# Altium footprint library PCB - LEADED - DPAK - ONSEMI DPAK FDD390N15ALZ.PcbLib: 1 footprints
Each footprint in its own frame and in the unit in brackets; x right, y up, seen from the top. Pads: shape width x height; smd on the part's side, far side on the other; paste and mask are expansions set on the pad; w line width, h text height; cw(c..) or ccw(c..) is an arc to the next point about the centre after c.
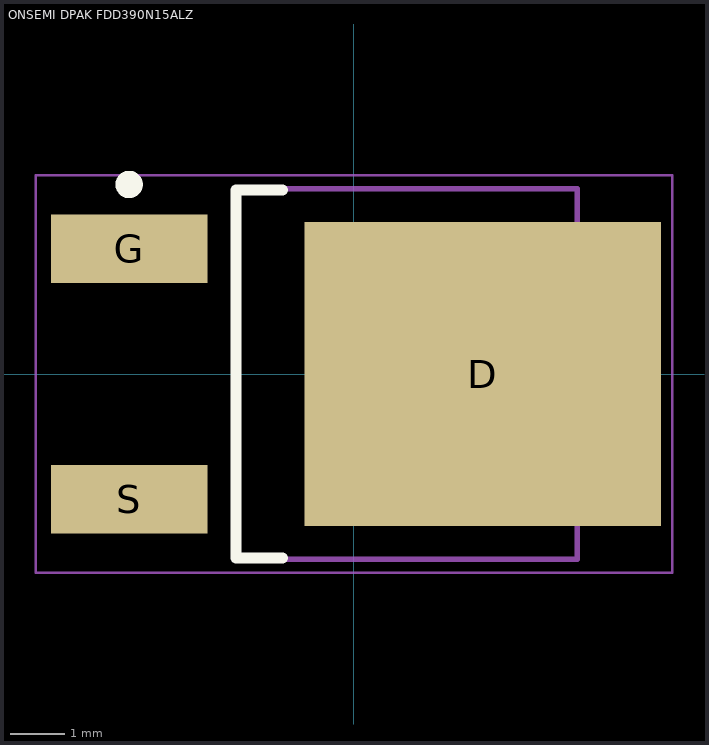
[diagram p0: the footprint, top view; thin cyan lines are the x and y axes]

## ONSEMI DPAK FDD390N15ALZ [mm]
height 2.39
pads (3):
  rect 6.5x5.55 smd: D(2.35,0)
  rect 2.85x1.25 smd: G(-4.1,2.28) S(-4.1,-2.28)
Top Overlay:
  circle w0.25: c-4.1,3.455 r0.125
  lines w0.2: -1.3,-3.35 -2.15,-3.35 -2.15,3.35 -1.3,3.35
Mechanical 13:
  lines w0.1: -2.15,-3.375 -2.15,3.375 4.07,3.375 4.07,-3.375 -2.15,-3.375
Mechanical 15:
  lines w0.05: -5.8,-3.625 -5.8,3.625 5.8,3.625 5.8,-3.625 -5.8,-3.625
  lines w0.1: -0.5,0 0.5,0 ; 0,-0.5 0,0.5
3D body "ONSEMI DPAK FDD390N15ALZ.step": height 2.39, standoff 0, extent -4.902,-3.375 5.003,3.375